# Altium footprint library Microcontroller circuit.PcbLib: 17 footprints (part 2 of 2)
Each footprint in its own frame and in the unit in brackets; x right, y up, seen from the top. Pads: shape width x height; smd on the part's side, far side on the other; paste and mask are expansions set on the pad; w line width, h text height; cw(c..) or ccw(c..) is an arc to the next point about the centre after c.
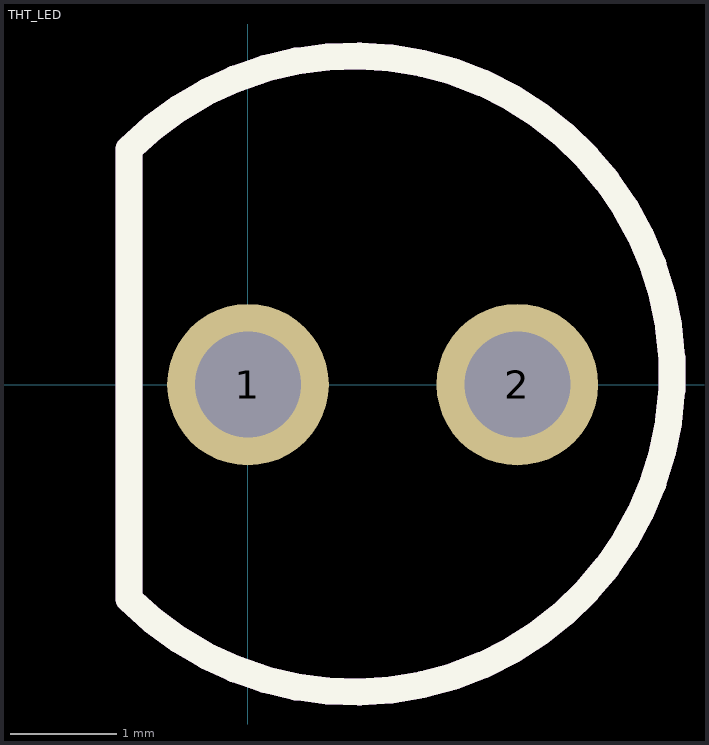
[diagram p1: the footprint, top view; thin cyan lines are the x and y axes]

## THT_LED [mil] "LED RED CLEAR T-1 T/H"
pads (2):
  round 60 hole 39.37: 1(0,0) 2(100,0)
Top Overlay:
  lines w10: -44.15,-79.58 ccw(c39.37,3.94) -44.15,87.45 -44.15,-79.58
Assembly Notes:
  lines w10: -44.15,-79.58 ccw(c39.37,3.94) -44.15,87.45 -44.15,-79.58
  text ".Designator" at -3.94,-19.68 h47.24
3D body "132X.STEP": height 224.41, standoff -1043.31, extent -23.62,-78.74 125.98,70.87